# Altium schematic symbol library UZOhm_Optical.SchLib: 32 symbols
Pins are listed as number, name and electrical type; pins without a type are passive.

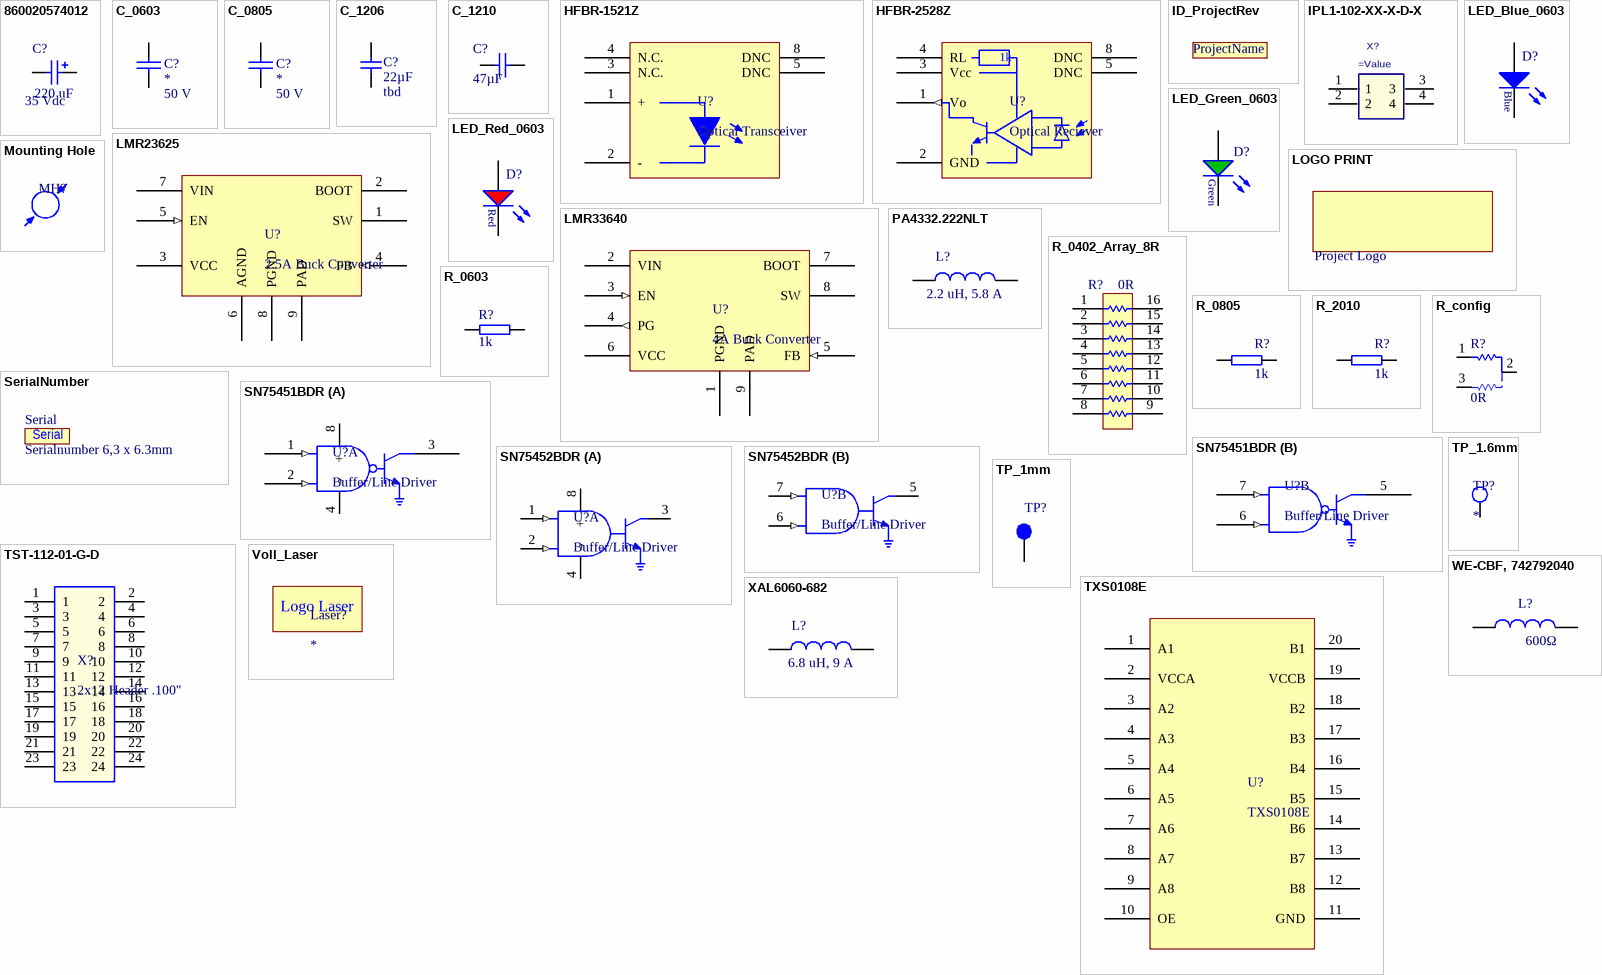
[diagram p0: symbols 860020574012 to XAL6060-682]

## 860020574012
designator C?, comment 220 uF  Voltage: 35 Vdc
WCAP-ATG5 Aluminum Electrolytic Capacitors, 8x11.5mm, 35 Vdc, 220 uF; Part Number: 860020574012; MF: Wurth Elektronik; ComponentLink1Description: Manufacturer; ComponentLink1URL: http://www.we-online.de; ComponentLink2Description: Datasheet; ComponentLink2URL: http://katalog.we-online.com/pbs/datasheet/860020574012.pdf; Published Date: Sep. 2017; Size: 8x11.5mm; Life Cycle: 2000h; Operating Temperature: -40 °C up to +105 °C; Value: 220 uF; MPN: 860020574012; Supplier 1: Mouser; Supplier Part Number 1: 710-860020574012
footprint WCAP-ATG5_8x11.5x3.5
pins: 1 P, 2 N

## C_0603
designator C?  Rated Voltage: 50 V  (hidden comment: *)
CAP 0603 (1608 Metric) SMD; Tolerance: ±5%; Case-Metric: 1608; Case-EIA: 0603; Max Thickness: 1 mm; Technology: SMT; Created: 2018_09_06_AGeiger; Dielectric: *; Supplier 1: *; Supplier Part Number 1: *; MF: *; MPN: *; Value: *
footprint C_0603(1608)100_L (Chip Capacitor, Body 1.6x0.8mm, Height 1.0mm, IPC High Density)
pins: 1, 2
1 alternate drawing of the same symbol

## C_0805
designator C?  Rated Voltage: 50 V  (hidden comment: *)
CAP 0805 (2012 Metric) SMD; Tolerance: ±5%; Case-Metric: 2012; Case-EIA: 0603; Max Thickness: 1 mm; Technology: SMT; Created: 2018_09_06_AGeiger; Dielectric: *; Supplier 1: *; Supplier Part Number 1: *; MF: *; MPN: *; Value: *
footprint CAP_2012X06N (Chip Resistor, 2-Leads, Body 2,00x1,25mm, IPC Medium Density)
pins: 1, 2
1 alternate drawing of the same symbol

## C_1206
designator C?, comment 22µF  Voltage: tbd
Capacitor 1206; Tolerance: 10%; Package: 1206; Value: 22µF; Created: 2018_06_25_AGeiger; Supplier 1: tbd; Supplier Part Number 1: tbd; MF: tbd; MPN: tbd; Dielectric: tbd
footprint C_1206
pins: 1, 2

## C_1210
designator C?, comment 47µF
Capacitor 1210; Dielectric: tbd; Created: 2018_11_12_AGeiger; MF: tbd; MPN: tbd; Package: 1210; Supplier 1: tbd; Supplier Part Number 1: tbd; Tolerance: tbd; Value: 47µF; Voltage: tbd
footprint C_1210_N (Chip Capacitor, 2-Leads, Body 3.4x2.7mm, IPC Medium Density)
pins: 1, 2

## HFBR-1521Z
designator U?, comment Optical Transceiver
Fibre Optic Transmitters, Receivers, Transceivers Versatile Link Horiz 5MBd Tx RoHS; MPN: HFBR-1521Z; MF: Broadcom/Avago; Wavelength: 660 nm; Foreward Current: 60 mA; Supply Voltage: 5V; Created: 2019_04_09_Kreppel; Data Rate: 5 MBd; Supplier 1: Mouser; Supplier 2: Digi-Key; Supplier Part Number 1: 630-HFBR-1521Z; Supplier Part Number 2: 516-2043-ND
footprint HFBRx5XX
pins: 1 + "Anode", 2 - "Cathode", 3 N.C. "Not Connected", 4 N.C. "Not Connected", 5 DNC "Do Not Connect", 8 DNC "Do Not Connect"

## HFBR-2528Z
designator U?, comment Optical Reciever
Fibre Optic Transmitters, Receivers, Transceivers V-LINK HORIZ 5MBd RC VR RoHS; MPN: HFBR-2521Z; Suppier Part Number 2: 516-2062-ND; MF: Boadcom/Avago; Wavelength: 660 nm; Iout max: 25 mA; Supply Voltage: 5V; Created: 2019_04_09_Kreppel; Data Rate: 5 MBd; Supplier 1: Mouser; Supplier 2: Digi-Key; Supplier Part Number 1: 630-HFBR-2521Z
footprint HFBRx5XX
pins: 1 Vo (out) "Data", 2 GND (power) "Ground", 3 Vcc (power) "Source", 4 RL, 5 DNC "Do Not Connect", 8 DNC "Do Not Connect"
text: 1k

## ID_ProjectRev
designator ProjectName, comment Project Name, Rev  (value not drawn)  (no BOM)
Project Name and Revision Number; Created: 2018_11_23_AGeiger; Value: Project Name, Rev
footprint ID_ProjectRev (project name + revision number)

## IPL1-102-XX-X-D-X
designator X?
2.54mm Double Row Terminal Assembly, Right-Angled; Manufacturer: SAMTEC; Created: 2018_05_02_AGeiger; Value: =MPN
footprint IPL1-102-01-L-D-K
footprint IPL1-102-01-L-D-RA-K
pins: 1, 2, 3, 4

## LED_Blue_0603
designator D?, comment 150060BS75000  (value not drawn)
WL-SMCW SMD Mono-color Chip LED Waterclear, size 0603, Blue, 3.2 V, 140°; Forward Voltage: 3.2 V; Luminous Intensity: 145 mcd; Peak Wavelength: 465 nm; Dominant Wavelength: 470 nm; MF: Wuerth Elektronik; Published Date: Sep. 2017; ComponentLink1Description: Manufacturer; ComponentLink1URL: http://www.we-online.de; ComponentLink2Description: Datasheet; ComponentLink2URL: http://katalog.we-online.com/led/datasheet/150060BS75000.pdf; MPN: 150060BS75000; Size: 0603; Viewing Angle: 140°; Emitting Color: Blue; Value: 150060BS75000; Package: 0603; Created: 2018_09_06_AGeiger; Supplier 1: Farnell; Supplier Part Number 1: 2322069; Supplier 2: Mouser; Supplier Part Number 2: 710-150060BS75000; Supplier 3: Digi-Key; Supplier Part Number 3: 732-4966-1-ND
footprint WL-SMCW_0603
pins: 1 K, 2 A

## LED_Green_0603
designator D?, comment 150060GS75000  (value not drawn)
WL-SMCW SMD Mono-color Chip LED Waterclear, size 0603, Green, 3.2 V, 140°; Forward Voltage: 3.2 V; Luminous Intensity: 430 mcd; Peak Wavelength: 515 nm; Dominant Wavelength: 520 nm; MF: Wuerth Elektronik; Published Date: Sep. 2017; ComponentLink1Description: Manufacturer; ComponentLink1URL: http://www.we-online.de; ComponentLink2Description: Datasheet; ComponentLink2URL: http://katalog.we-online.com/led/datasheet/150060GS75000.pdf; MPN: 150060GS75000; Size: 0603; Viewing Angle: 140°; Emitting Color: Green; Value: 150060GS75000; Package: 0603; Created: 2018_09_06_AGeiger; Supplier 1: Farnell; Supplier Part Number 1: 2322070; Supplier 2: Mouser; Supplier Part Number 2: 710-150060GS75000; Supplier 3: Digi-Key; Supplier Part Number 3: 732-4971-1-ND
footprint WL-SMCW_0603
pins: 1 K, 2 A

## LED_Red_0603
designator D?, comment 150060RS75000  (value not drawn)
WL-SMCW SMD Mono-color Chip LED Waterclear, size 0603, Red, 2 V, 140°; Forward Voltage: 2 V; Luminous Intensity: 250 mcd; Peak Wavelength: 630 nm; Dominant Wavelength: 625 nm; MF: Wuerth Elektronik; Published Date: Sep. 2017; ComponentLink1Description: Manufacturer; ComponentLink1URL: http://www.we-online.de; ComponentLink2Description: Datasheet; ComponentLink2URL: http://katalog.we-online.com/led/datasheet/150060RS75000.pdf; MPN: 150060RS75000; Size: 0603; Viewing Angle: 140°; Emitting Color: Red; Value: 150060RS75000; Package: 0603; Created: 2018_09_06_AGeiger; Supplier 1: Farnell; Supplier Part Number 1: 2322071; Supplier 2: Mouser; Supplier Part Number 2: 710-150060RS75000; Supplier 3: Digi-Key; Supplier Part Number 3: 732-4978-1-ND
footprint WL-SMCW_0603
pins: 1 K, 2 A

## LMR23625
designator U?, comment 2.5A Buck Converter
LMR23625 SIMPLE SWITCHER 4-36Vin, 2.5V synchronous step-down regulator; MPN: LMR23625CFDDAR; MF: Texas Instruments; Created: 2019_04_09_Kreppel; Supplier 1: Mouser; Supplier Part Number 1: 595-LMR23625CFDDAR; Value: *
footprint SOP127P600X170_HS-9N (SOP, 8-Leads, Body 4,90x3,90mm, Pitch 1,27mm, Thermal Pad 3,10x2,40mm, IPC Medium Density)
pins: 1 SW (power), 2 BOOT (power), 3 VCC (power), 4 FB (in), 5 EN (in), 6 AGND (power), 7 VIN (power), 8 PGND (power), 9 PAD (power)

## LMR33640
designator U?, comment 4A Buck Converter
3.6B to 36V, 4A Synchronous Step-down Converter; MPN: LMR33640DDDAR; MF: Texas Instruments; fSW: 1 MHz; Created: 2020_04_Kreppel; Package: HSOIC-8; Supplier 1: Mouser; Supplier Part Number 1: 595-LMR33640DDDAR
footprint SOP127P600X170_HS-9N (SOP, 8-Leads, Body 4,90x3,90mm, Pitch 1,27mm, Thermal Pad 3,10x2,40mm, IPC Medium Density)
pins: 1 PGND (power), 2 VIN (power), 3 EN (in), 4 PG (out), 5 FB (in), 6 VCC (power), 7 BOOT (power), 8 SW (power), 9 PAD (power)

## LOGO PRINT
designator LOGO?, comment Project Logo  (no BOM)
LOGO PRINT; Created: 2018_09_18_AGeiger; Value: Project Logo
footprint Logo_Partners_1 (THN, TUM and USACH Logo)
footprint Logo_Partners_2 (USACH, THN and TUM Logo)

## Mounting Hole
designator MH?
Non plated through hole
footprint MH_3.4
footprint MH_2.8

## PA4332.222NLT
designator L?, comment 2.2 uH, 5.8 A
SMT Shielded Tiny Power Inductor, size 4x4x2, 2.2 uH, 5.8 A; Part Number: PA4332.222NLT; Rated Current: 5.8A; DC Resistance max.: 48 mOhm; Self Resonant Frequency: 25 MHz; Saturation Current: 6.1 A; Inductance: 2.2 uH; ComponentLink1Description: Manufacturer; ComponentLink1URL: http://www.we-online.de; ComponentLink2Description: Datasheet; ComponentLink2URL: https://katalog.we-online.com/pbs/datasheet/744031002.pdf; Created: 2019_04_09_Kreppel; Publisher: Pulse Electronics; Size: 4x4x2; Operating Temperature: -40 to +125 degC; Mounting Technology: SMT; Packaging: Tape and Reel; Supplier 1: Mouser; Supplier 2: Digi-Key; Supplier Part Number 1: 673-PA4332222NLT; Supplier Part Number 2: 553-3290-1-ND
footprint SDC Inductor 4x4x2 (Power Inductor, SMD, 2-Leads, body 4x4mm)
pins: 1, 2

## R_0402_Array_8R
designator R?, comment 0R
Chip Resistor Array; MPN: CAY16-000J8LF; MF: Bourns; Package: 0402; Created: 2018_10_30_AGeiger; Value: 0R; Supplier Part Number 1: 652-CAY16-000J8LF; Supplier 1: Mouser; ComponentLink1Description: Datasheet; ComponentLink1URL: https://www.mouser.de/datasheet/2/315/AOC0000C14-1108062.pdf
footprint CAF-50P380X160-16N (Chip Array, Flat, 16-Leads, Pitch 0,50mm,  Body 3,80x1,60mm,  IPC Medium Density)
pins: 1, 2, 3, 4, 5, 6, 7, 8, 9, 10, 11, 12, 13, 14, 15, 16

## R_0603
designator R?, comment 1k
SMD Resistor 0603; Tolerance: 1%; Voltage: 75 V; Power: 100 mW; Package: 0603; Value: 1k; Created: 2018_09_06_AGeiger; Supplier 1: *; Supplier Part Number 1: *; MF: *; MPN: *
footprint R_0603_N (SMD Resistor, Body 1.6x0.8mm, IPC Medium Density)
pins: 1, 2

## R_0805
designator R?, comment 1k
SMD Resistor 0805; Case_EIA: 0805; Voltage: 150 V; Power: 125 mW; Tolerance: 1%; Value: 1k; MF: *; MPN: *; Supplier 1: *; Supplier Part Number 1: *
footprint RES_2012X06N (Chip Resistor, 2-Leads, Body 2,00x1,25mm, IPC Medium Density)
pins: 1, 2

## R_2010
designator R?, comment 1k
SMD Resistor 2010; Case_EIA: 0805; Voltage: 200 V; Power: 750 mW; Tolerance: 5%; Value: 1k; MF: *; MPN: *; Supplier 1: *; Supplier Part Number 1: *
footprint RESC5025X06L (Chip Resistor, 2-Leads, Body 5,00x2,50mm, IPC High Density)
pins: 1, 2

## R_config
designator R?, comment 0R
Solder resistor/jumper between pads 1 and 2 for standard function. Solder resistor between pads 2 and 3 for alternative function; Created: 2018_09_04_AGeiger; Value: 0R; Package: 0603
footprint 0603_Config (0603 3-Pin Config Footprint)
footprint 1206_Config (1206 3-Pin Config Footprint)
pins: 1, 2, 3

## SerialNumber
designator Serial, comment Serialnumber 6,3 x 6.3mm  (no BOM)
Created: 2018_09_18_AGeiger; Value: Serialnumber 6,3 x 6.3mm
footprint Serial_6.3x6.3mm

## SN75451BDR
designator U?, comment Buffer/Line Driver
Buffers & Line Drivers Dual Very-HS HC Peripheral Drivers, NOT; MPN: SN75451BDR; MF: Texas Instruments; Supply Voltage: 4.75-5.25 V; Created: 2019_04_09_Kreppel; Package: SOIC-8; Supplier 1: Mouser; Supplier Part Number 1: 595-SN75451BDR
footprint SOIC127P600X175-8N (SOIC, 8-Leads, Body 4,90x3,90mm, Pitch 1,27mm, IPC Medium Density)
part A pins: 1 1A (in), 2 1B (in), 3 1Y (oc), 4 - (power), 8 + (power)
part B pins: 5 2Y (oc), 6 2A (in), 7 2B (in)

## SN75452BDR
designator U?, comment Buffer/Line Driver
Buffers & Line Drivers Dual Very-HS HC Peripheral Drivers; MPN: SN75452BDR; MF: Texas Instruments; Supply Voltage: 4.75-5.25 V; Created: 2019_04_09_Kreppel; Package: SOIC-8; Supplier 1: Mouser; Supplier Part Number 1: 595-SN75452BDR
footprint SOIC127P600X175-8N (SOIC, 8-Leads, Body 4,90x3,90mm, Pitch 1,27mm, IPC Medium Density)
part A pins: 1 1A (in), 2 1B (in), 3 1Y (oc), 4 - (power), 8 + (power)
part B pins: 5 2Y (oc), 6 2A (in), 7 2B (in)

## TP_1.6mm
designator TP?
Testpoint 1.6mm Through Hole
footprint TP_1.6MM (TP 1.6mm Through Hole)
pins: 1

## TP_1mm
designator TP?, comment Testpoint 1mm  (value not drawn)
Created: 2018_06_25_AGeiger; Value: Testpoint 1mm
footprint TP_1mm
pins: 1

## TST-112-01-G-D
designator X?, comment 2x12 Header .100''
Double Row, 12 positions, Shrouded Terminal Header .100''; MPN: TST-112-01-G-D; MF: Samtec; Created: 2020_04_Kreppel; Supplier 1: Mouser; Supplier Part Number 1: 200-TST11201GD
footprint TST-112-01-G-D (2x12 .100'' Header Samtec)
pins: 1, 2, 3, 4, 5, 6, 7, 8, 9, 10, 11, 12, 13, 14, 15, 16, 17, 18, 19, 20, 21, 22, 23, 24

## TXS0108E
designator U?
8 Ch. Bidirectional Voltage-Level translator; MPN: TXS0108EPWR; MF: Texas Instruments; Created: 20190904_Kreppel; Package: TSSOP-20; Supplier 1: Mouser; Supplier Part Number 1: 595-TXS0108EPWR
footprint TXS0108E
pins: 1 A1, 2 VCCA, 3 A2, 4 A3, 5 A4, 6 A5, 7 A6, 8 A7, 9 A8, 10 OE, 11 GND, 12 B8, 13 B7, 14 B6, 15 B5, 16 B4, 17 B3, 18 B2, 19 VCCB, 20 B1

## Voll_Laser
designator Laser?
Logo Laser Warning Sign
footprint Voll_Laser
text: Logo Laser

## WE-CBF, 742792040
designator L?, comment 600Ω
WE-CBF SMD EMI Suppression Ferrite Bead, 0805, 600Ω; MPN: 742792040; MF: Wurth Elektronik; Type: High Current; PublishedDate: Aug 2016; ComponentLink1Description: Manufacturer; ComponentLink1URL: http://www.we-online.de; ComponentLink2Description: Datasheet; ComponentLink2URL: http://katalog.we-online.de/pbs/datasheet/742792040.pdf; Value: 600Ω; Size: 0805; Supplier 1: Farnell; Supplier 2: Mouser; Supplier 3: Digi-Key; Supplier Part Number 1: 2761567; Supplier Part Number 2: 710-742792040; Supplier Part Number 3: 732-1620-1-ND
footprint WE-CBF_0805_High Current (SMD EMI Suppression Ferrite  Bead, body 2.0mmx1.2mm)
pins: 1, 2

## XAL6060-682
designator L?, comment 6.8 uH, 9 A
SMT Shielded Power Inductor, 6.8uH 20% 9A 20.8mOhms; MPN: XAL6060-682MEB; MF: Coilcraft; Self Resonant Frequency: 18 MHz; Saturation Current: 10 A; ComponentLink1Description: Manufacturer; ComponentLink1URL: http://www.we-online.de; ComponentLink2Description: Datasheet; ComponentLink2URL: https://katalog.we-online.com/pbs/datasheet/744031002.pdf; Created: 2019_04_09_Kreppel; Rated Current: 9A; Size: 6.76x6.56x6.1; DC Resistance max.: 20.8 mOhm; Operating Temperature: -40 to +125 degC; Mounting Technology: SMT; Packaging: Tape and Reel; Inductance: 6.8 uH; Supplier 1: Mouser; Supplier 2: Digi-Key; Supplier Part Number 1: 994-XAL6060-682MEB; Supplier Part Number 2: *
footprint SPI 6x6x6 (Power Inductor, SMD, 2-Leads, body 6x6mm)
pins: 1, 2